# Altium schematic symbol library Tracker_v1_1_sch.SchLib: 44 symbols (part 2 of 2)
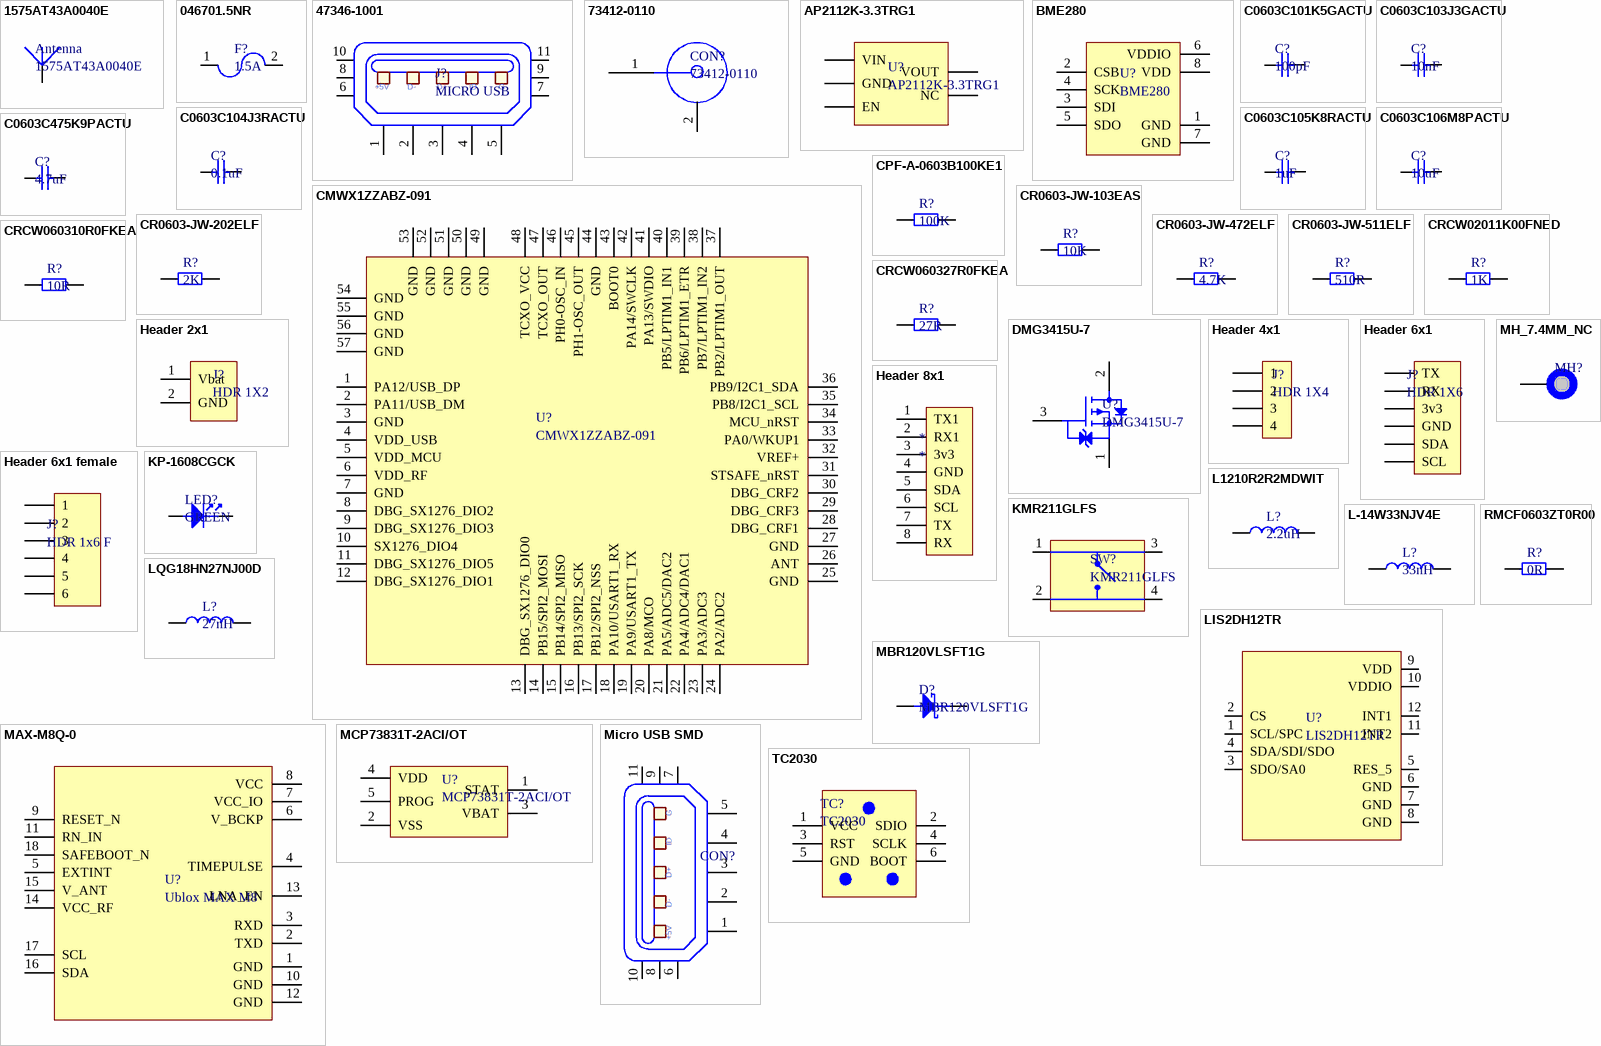
[diagram p2: symbols 1575AT43A0040E to TC2030]

## Micro USB SMD
designator CON?  (value not drawn)
AMPHENOL FCI - 10104110-0001LF - MICRO USB, 2.0 TYPE B, RECEPTACLE, SMT; USB Connector Type: Micro USB Type B; USB Standard: USB 2.0; No. of Positions: 5; Connector Mounting: Surface Mount; SVHC: No SVHC (15-Jun-2015); Connector Type: USB Micro B; Contact Termination: Surface Mount Right Angle; No. of Contacts: 5Contacts<!--FANDB--><div class="features-and-benefits-container"><div class="features-and-benefits-description"><span class="features-benefits-value">The 10104110-0001LF is a micro-USB type-B Receptacle Connector, comply with physical, electrical and environmental requirements of micro-USB standard (USB 2.0). Space receptacles and plugs are available in a wide variety of mounting and termination configurations, permitting their use in various applications. Compared with the standard mini-B connectors, the size is reduced by approximately 60% while still allowing a high-speed data transfer of 480; Supplier 1: Farnell; Manufacturer: AMPHENOL FCI; Manufacturer Part Number: 10104110-0001LF; RoHS: YES; Stock 1: 25585; Pricing 1: 1=0.464, 10=0.451, 25=0.437, 50=0.424, 100=0.41, 250=0.291 (GBP); Gender: Receptacle; Orientation: Right Angle; Contact Material: Copper Alloy; Contact Plating: Gold Plated Contacts; Product Range: -; Contact Termination Type: Surface Mount; ComponentLink1URL: http://www.farnell.com/datasheets/1469072.pdf; ComponentLink1Description: http://www.farnell.com/datasheets/1469072.pdf; Supplier Part Number 1: 2293753
footprint MICRO usb conn
pins: 1, 2, 3, 4, 5, 6, 7, 8, 9, 10, 11
text: G; ID; D+; D-; +5V

## RMCF0603ZT0R00
designator R?, comment 0R
RES 0 OHM JUMPER 1/10W 0603; Manufacturer: Stackpole Electronics; Manufacturer Part Number: RMCF0603ZT0R00; Resistance: 0mR; Power Rating: 100mW; Current Rating: 1A; Working Voltage: 75V; Supplier 1: Digi-Key; Stock 1: 0; Mount: Surface Mount; Case/Package: 0603; Case Code (Metric): 1608; Case Code (Imperial): 0603; Contact Plating: Tin,Matte; Min Operating Temperature: -55°C; Max Operating Temperature: 155°C; Packaging: Tape and Reel; Composition: Thick Film; Number of Terminations: 2; Military Standard: Not; Max Power Dissipation: 100mW; Features: Automotive AEC-Q200; Length: 1.55mm; Height: 0.022inch; Width: 0.031inch; Depth: 0.8mm; Radiation Hardening: No; Lead Free: Lead Free; Supplier Part Number 1: RMCF0603ZT0R00-ND
footprint R0603
pins: 1, 2

## TC2030
designator TC?
footprint TC2030
pins: 1 VCC, 2 SDIO, 3 RST, 4 SCLK, 5 GND, 6 BOOT

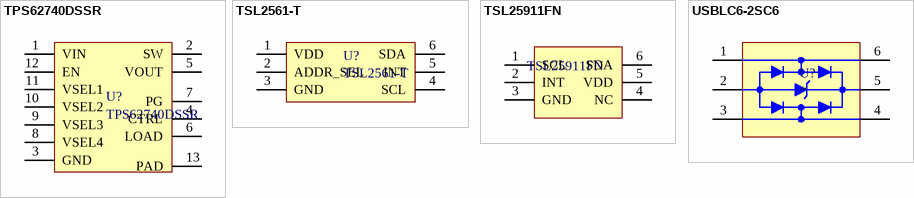
[diagram p1: symbols TPS62740DSSR to USBLC6-2SC6]

## TPS62740DSSR
designator U?
Switching Voltage Regulators 360-nA Iq SD Cnvtr w/ Intg Load Switch; Manufacturer: Texas Instruments; Number of Outputs: 1; Output Voltage: 3.3V; Max Output Current: 300mA; Min Input Voltage: 2.2V; Max Input Voltage: 5.5V; Efficiency: 90%; Switching Frequency: 2MHz; Min Output Voltage: 1.8V; Quiescent Current: 300nA; Supplier 1: Farnell; Manufacturer Part Number: TPS62740DSSR; Stock 1: 0; Pricing 1: 3000=0.685, 6000=0.679, 9000=0.672 (EUR); Mount: Surface Mount; Number of Pins: 12; Min Operating Temperature: -40°C; Max Operating Temperature: 85°C; Package Quantity: 3000; Packaging: Tape and Reel; Output Current: 300mA; Min Supply Voltage: 2.2V; Operating Supply Current: 300mA; Max Output Voltage: 3.3V; Operating Supply Voltage: 5.5V; Radiation Hardening: No; REACH SVHC: No SVHC; Lead Free: Lead Free; ComponentLink1URL: http://www.ti.com/lit/ds/symlink/tps62740.pdf?src-supplier=Digi-Key; ComponentLink1Description: http://www.ti.com/lit/ds/symlink/tps62740.pdf?src-supplier=Digi-Key; ComponentLink2URL: http://www.ti.com/lit/ds/symlink/tps62740.pdf?src-supplier=Avnet; ComponentLink2Description: http://www.ti.com/lit/ds/symlink/tps62740.pdf?src-supplier=Avnet; Supplier Part Number 1: 2542791
footprint TPS62740DSSR
pins: 1 VIN, 2 SW, 3 GND, 4 CTRL, 5 VOUT, 6 LOAD, 7 PG, 8 VSEL4, 9 VSEL3, 10 VSEL2, 11 VSEL1, 12 EN, 13 PAD

## TSL2561-T
designator U?
AMS - TSL2561T - SENSOR, LIGHT-DIGITAL CONVERTER, I2C; Manufacturer: ams TAOS; Rise Time: 300ns; Min Supply Voltage: 2.7V; Max Supply Voltage: 3.6V; Operating Supply Voltage: 3V; Wavelength: 640nm; Data Bus Width: 16b; Operating Supply Current: 600uA; Power Dissipation: 750uW; Max Frequency: 400kHz; Output Current: 6mA; Supplier 1: Farnell; Manufacturer Part Number: TSL2561-T; Stock 1: 18; Pricing 1: 1=3.17, 25=2.28, 50=2.02, 100=1.96, 250=1.81, 500=1.65, 1000=1.24, 2500=1.22 (EUR); Case/Package: T; Number of Pins: 6; Min Operating Temperature: -30°C; Max Operating Temperature: 70°C; Packaging: Tape and Reel; Package Quantity: 1; Interface: I2C; Resolution: 16b; Fall Time: 300ns; Output Type: I2C; Length: 1.25mm; Height: 1.398mm; Width: 0.4mm; REACH SVHC: No SVHC; Lead Free: Lead Free; ComponentLink1URL: http://uk.rs-online.com/webdocs/1386/0900766b813864a6.pdf?src-supplier=RSComponents; ComponentLink1Description: http://uk.rs-online.com/webdocs/1386/0900766b813864a6.pdf?src-supplier=RSComponents; ComponentLink2URL: http://www.farnell.com/datasheets/1701992.pdf?src-supplier=Element14; ComponentLink2Description: http://www.farnell.com/datasheets/1701992.pdf?src-supplier=Element14; ComponentLink3URL: https://media.digikey.com/pdf/Data%20Sheets/Austriamicrosystems%20PDFs/TSL2560,61.pdf?src-supplier=Digi-Key; ComponentLink3Description: https://media.digikey.com/pdf/Data%20Sheets/Austriamicrosystems%20PDFs/TSL2560,61.pdf?src-supplier=Digi-Key; Supplier Part Number 1: 1226888
footprint TSL2561T
pins: 1 VDD, 2 ADDR_SEL, 3 GND, 4 SCL, 5 INT, 6 SDA

## TSL25911FN
designator ?
IC LIGHT TO DGTL CONV 6-DFN; Manufacturer: ams TAOS; Wavelength: 850nm; Interface: I2C; Data Bus Width: 16b; Max Frequency: 400kHz; Operating Supply Voltage: 3V; Supplier 1: Digi-Key; Manufacturer Part Number: TSL25911FN; Stock 1: 28000; Case/Package: WFDFN; Number of Pins: 6; Min Operating Temperature: -30°C; Max Operating Temperature: 70°C; Packaging: Tape and Reel; Package Quantity: 1; Output Type: I2C; Lead Free: Lead Free; ComponentLink1URL: http://www.mouser.com/ds/2/588/TSL2591_DS000338_3-00-253098.pdf?src-supplier=Mouser; ComponentLink1Description: http://www.mouser.com/ds/2/588/TSL2591_DS000338_3-00-253098.pdf?src-supplier=Mouser; ComponentLink2URL: http://www1.futureelectronics.com/doc/AMS/TSL25911FN.pdf?src-supplier=Future+Electronics; ComponentLink2Description: http://www1.futureelectronics.com/doc/AMS/TSL25911FN.pdf?src-supplier=Future+Electronics; ComponentLink3URL: https://ams.com/documents/20143/36005/TSL2591_DS000338_6-00.pdf?src-supplier=Digi-Key; ComponentLink3Description: https://ams.com/documents/20143/36005/TSL2591_DS000338_6-00.pdf?src-supplier=Digi-Key; ComponentLink4URL: http://www.ams.com/eng/content/download/389383/1251117/221235?src-supplier=Digi-Key; ComponentLink4Description: http://www.ams.com/eng/content/download/389383/1251117/221235?src-supplier=Digi-Key; Supplier Part Number 1: TSL25911FNTR-ND
footprint TSL2591
pins: 1 SCL, 2 INT, 3 GND, 4 NC, 5 VDD, 6 SDA

## USBLC6-2SC6
designator U?
TVS DIODE 5.25V 17V SOT23-6; Manufacturer: STMicroelectronics; Manufacturer Part Number: USBLC6-2SC6; Direction: Unidirectional,Bidirectional; Capacitance: 3.5pF; Operating Supply Voltage: 1.1V; Number of Channels: 2; Breakdown Voltage: 6V; Power Line Protection: Yes; Test Current: 1mA; Max Reverse Leakage Current: 150nA; Peak Pulse Current: 5A; Element Configuration: Dual; Data Rate: 480Mbps; Number of Elements: 1; Working Voltage: 5V; Supplier 1: Farnell; Stock 1: 0; Mount: Surface Mount; Case/Package: SOT-23; Number of Pins: 6; Contact Plating: Tin,Matte; Min Operating Temperature: -40°C; Max Operating Temperature: 125°C; Clamping Voltage: 17V; Packaging: Tape and Reel; Package Quantity: 3000; Termination: SMD/SMT; Number of Bidirectional Channels: 2; Reverse Standoff Voltage: 5.25V; Min Breakdown Voltage: 6V; ESD Protection: Yes; Leakage Current: 150nA; Reverse Breakdown Voltage: 6V; Polarity: Unidirectional,Bidirectional; Max Breakdown Voltage: 6V; Length: 3.05mm; Height: 1.3mm; Width: 1.75mm; Depth: 1.75mm; Radiation Hardening: No; REACH SVHC: No SVHC; Lead Free: Lead Free; ComponentLink1URL: http://www.farnell.com/datasheets/1690354.pdf?src-supplier=Element14; ComponentLink1Description: http://www.farnell.com/datasheets/1690354.pdf?src-supplier=Element14; ComponentLink2URL: http://www.st.com/content/ccc/resource/technical/document/datasheet/06/1d/48/9c/6c/20/4a/b2/CD00050750.pdf/files/CD00050750.pdf/jcr:content/translations/en.CD00050750.pdf?src-supplier=Mouser; ComponentLink2Description: http://www.st.com/content/ccc/resource/technical/document/datasheet/06/1d/48/9c/6c/20/4a/b2/CD00050750.pdf/files/CD00050750.pdf/jcr:content/translations/en.CD00050750.pdf?src-supplier=Mouser; ComponentLink3URL: http://www.st.com/web/en/resource/technical/document/datasheet/CD00050750.pdf?src-supplier=Future+Electronics; ComponentLink3Description: http://www.st.com/web/en/resource/technical/document/datasheet/CD00050750.pdf?src-supplier=Future+Electronics; ComponentLink4URL: http://www.st.com/content/ccc/resource/technical/document/datasheet/06/1d/48/9c/6c/20/4a/b2/CD00050750.pdf/files/CD00050750.pdf/jcr:content/translations/en.CD00050750.pdf?src-supplier=Verical; ComponentLink4Description: http://www.st.com/content/ccc/resource/technical/document/datasheet/06/1d/48/9c/6c/20/4a/b2/CD00050750.pdf/files/CD00050750.pdf/jcr:content/translations/en.CD00050750.pdf?src-supplier=Verical; ComponentLink5URL: http://datasheet.iiic.cc/stmicroelectronics/USBLC6-2SC6.pdf?src-supplier=IIIC; ComponentLink5Description: http://datasheet.iiic.cc/stmicroelectronics/USBLC6-2SC6.pdf?src-supplier=IIIC; ComponentLink6URL: http://www.produktinfo.conrad.com/datenblaetter/1100000-1199999/001184109-da-01-en-IC_ESD_PROTECTI_USBLC6_2SC6_SOT_23_6_STM.pdf?src-supplier=Conrad; ComponentLink6Description: http://www.produktinfo.conrad.com/datenblaetter/1100000-1199999/001184109-da-01-en-IC_ESD_PROTECTI_USBLC6_2SC6_SOT_23_6_STM.pdf?src-supplier=Conrad
footprint USBLC6-2SC6
pins: 1, 2, 3, 4, 5, 6